# EAGLE library part TDA7266SA (library Audio-Power-amlifier V.2.0)
7W+7W DUAL BRIDGE AMPLIFIER
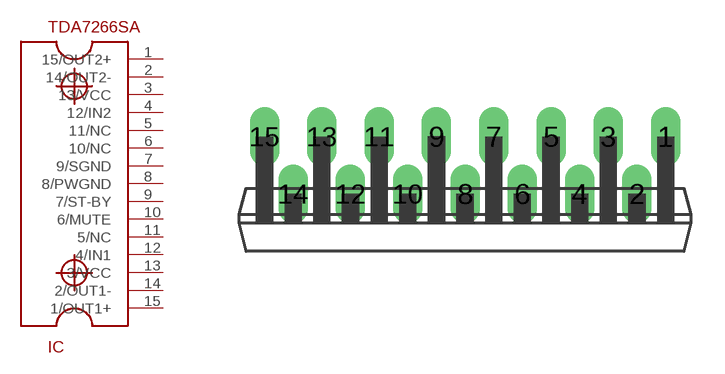
[diagram p64: symbol with the pads of CLIPWATT15; footprint CLIPWATT15]

Designator prefix IC

## TDA7266SA  [CLIPWATT15]
1  15/OUT2+  out
2  14/OUT2-  out
3  13/VCC  pwr
4  12/IN2  in
5  11/NC  nc
6  10/NC  nc
7  9/SGND  pwr
8  8/PWGND  pwr
9  7/ST-BY
10  6/MUTE
11  5/NC  nc
12  4/IN1  in
13  3/VCC  pwr
14  2/OUT1-  out
15  1/OUT1+  out

## Footprint CLIPWATT15 (pad centres in mm)
drill 0.8 pad 1.27 long: 1 8.89,2.54; 2 7.62,0; 3 6.35,2.54; 4 5.08,0; 5 3.81,2.54; 6 2.54,0; 7 1.27,2.54; 8 0,0; 9 -1.27,2.54; 10 -2.54,0; 11 -3.81,2.54; 12 -5.08,0; 13 -6.35,2.54; 14 -7.62,0; 15 -8.89,2.54